# Altium schematic symbol library display.SchLib: 1 symbol
Pins are listed as number, name and electrical type; pins without a type are passive.

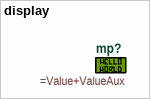
[diagram p0: symbol display]

## display
designator mp?  (mechanical)
=Description